# Altium footprint library SC091413.PcbLib: 3 footprints
Each footprint in its own frame and in the unit in brackets; x right, y up, seen from the top. Pads: shape width x height; smd on the part's side, far side on the other; paste and mask are expansions set on the pad; w line width, h text height; cw(c..) or ccw(c..) is an arc to the next point about the centre after c.
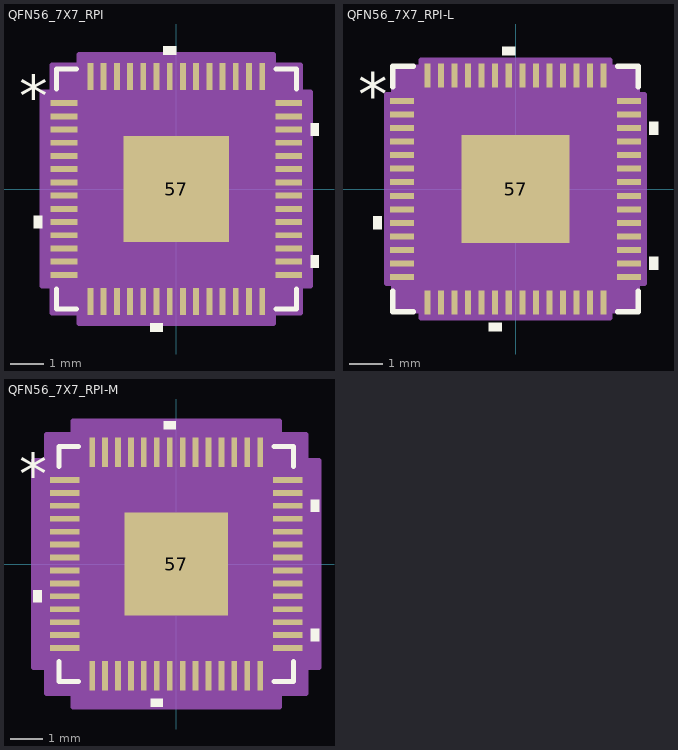
[diagram p0: the footprints below, top view; thin cyan lines are the x and y axes]

## QFN56_7X7_RPI [mil]
pads (57):
  rect 32x7 smd paste+0 mask+0: 1(-134,102.36) 2(-134,86.61) 3(-134,70.87) 4(-134,55.12) 5(-134,39.37) 6(-134,23.62) 7(-134,7.87) 8(-134,-7.87) 9(-134,-23.62) 10(-134,-39.37) 11(-134,-55.12) 12(-134,-70.87) 13(-134,-86.61) 14(-134,-102.36) 29(134,-102.36) 30(134,-86.61) 31(134,-70.87) 32(134,-55.12) 33(134,-39.37) 34(134,-23.62) 35(134,-7.87) 36(134,7.87) 37(134,23.62) 38(134,39.37) 39(134,55.12) 40(134,70.87) 41(134,86.61) 42(134,102.36)
  rect 7x32 smd paste+0 mask+0: 15(-102.36,-134) 16(-86.61,-134) 17(-70.87,-134) 18(-55.12,-134) 19(-39.37,-134) 20(-23.62,-134) 21(-7.87,-134) 22(7.87,-134) 23(23.62,-134) 24(39.37,-134) 25(55.12,-134) 26(70.87,-134) 27(86.61,-134) 28(102.36,-134) 43(102.36,134) 44(86.61,134) 45(70.87,134) 46(55.12,134) 47(39.37,134) 48(23.62,134) 49(7.87,134) 50(-7.87,134) 51(-23.62,134) 52(-39.37,134) 53(-55.12,134) 54(-70.87,134) 55(-86.61,134) 56(-102.36,134)
  rect 126x126 smd paste-63 mask+0: 57(0,0)
Top Overlay:
  region: -0.37,160 -15.37,160 -15.37,170 -0.37,170
  region: 160,78.37 170,78.37 170,63.37 160,63.37
  region: 160,-79.11 170,-79.11 170,-94.11 160,-94.11
  region: -16.12,-160 -31.12,-160 -31.12,-170 -16.12,-170
  region: -160,-31.87 -170,-31.87 -170,-46.87 -160,-46.87
  lines w6: -143,-118.96 -143,-143 -118.96,-143 ; -143,118.96 -143,143 -118.96,143 ; 118.96,-143 143,-143 143,-118.96 ; 118.96,143 143,143 143,118.96
  text "*" at -187.5,85.24 h50
Top Paste:
  region: 59.06,-3.94 3.94,-3.94 3.94,-59.06 59.06,-59.06
  region: 59.06,59.06 3.94,59.06 3.94,3.94 59.06,3.94
  region: -3.94,-3.94 -59.06,-3.94 -59.06,-59.06 -3.94,-59.06
  region: -3.94,59.06 -59.06,59.06 -59.06,3.94 -3.94,3.94
Mechanical 13:
  lines w1: -138,88 -88,138 ; -138,-138 -138,138 138,138 138,-138 -138,-138 ; -138,-106.86 -138,-97.86 -138,-106.86 ; -138,-91.11 -138,-82.11 -138,-91.11 ; -138,-75.37 -138,-66.37 -138,-75.37 ; -138,-59.62 -138,-50.62 -138,-59.62 ; -138,-43.87 -138,-34.87 -138,-43.87 ; -138,-28.12 -138,-19.12 -138,-28.12 ; -138,-12.37 -138,-3.37 -138,-12.37 ; -138,3.37 -138,12.37 -138,3.37 ; -138,19.12 -138,28.12 -138,19.12 ; -138,34.87 -138,43.87 -138,34.87 ; -138,50.62 -138,59.62 -138,50.62 ; -138,66.37 -138,75.37 -138,66.37 ; -138,82.11 -138,91.11 -138,82.11 ; -138,97.86 -138,106.86 -138,97.86 ; -106.86,-138 -97.86,-138 -106.86,-138 ; -106.86,138 -97.86,138 -106.86,138 ; -91.11,-138 -82.11,-138 -91.11,-138 ; -91.11,138 -82.11,138 -91.11,138 ; -75.37,-138 -66.37,-138 -75.37,-138 ; -75.37,138 -66.37,138 -75.37,138 ; -59.62,-138 -50.62,-138 -59.62,-138 ; -59.62,138 -50.62,138 -59.62,138 ; -43.87,-138 -34.87,-138 -43.87,-138 ; -43.87,138 -34.87,138 -43.87,138 ; -28.12,-138 -19.12,-138 -28.12,-138 ; -28.12,138 -19.12,138 -28.12,138 ; -12.37,-138 -3.37,-138 -12.37,-138 ; -12.37,138 -3.37,138 -12.37,138 ; 3.37,-138 12.37,-138 3.37,-138 ; 3.37,138 12.37,138 3.37,138 ; 19.12,-138 28.12,-138 19.12,-138 ; 19.12,138 28.12,138 19.12,138 ; 34.87,-138 43.87,-138 34.87,-138 ; 34.87,138 43.87,138 34.87,138 ; 50.62,-138 59.62,-138 50.62,-138 ; 50.62,138 59.62,138 50.62,138 ; 66.37,-138 75.37,-138 66.37,-138 ; 66.37,138 75.37,138 66.37,138 ; 82.11,-138 91.11,-138 82.11,-138 ; 82.11,138 91.11,138 82.11,138 ; 97.86,-138 106.86,-138 97.86,-138 ; 97.86,138 106.86,138 97.86,138 ; 138,-106.86 138,-97.86 138,-106.86 ; 138,-91.11 138,-82.11 138,-91.11 ; 138,-75.37 138,-66.37 138,-75.37 ; 138,-59.62 138,-50.62 138,-59.62 ; 138,-43.87 138,-34.87 138,-43.87 ; 138,-28.12 138,-19.12 138,-28.12 ; 138,-12.37 138,-3.37 138,-12.37 ; 138,3.37 138,12.37 138,3.37 ; 138,19.12 138,28.12 138,19.12 ; 138,34.87 138,43.87 138,34.87 ; 138,50.62 138,59.62 138,50.62 ; 138,66.37 138,75.37 138,66.37 ; 138,82.11 138,91.11 138,82.11 ; 138,97.86 138,106.86 138,97.86
  text "*" at -130.5,85.24 h50
Mechanical 15:
  region: -115.86,-148 -148,-148 -148,-115.86 -160,-115.86 -160,115.86 -148,115.86 -148,148 -115.86,148 -115.86,160 115.86,160 115.86,148 148,148 148,115.86 160,115.86 160,-115.86 148,-115.86 148,-148 115.86,-148 115.86,-160 -115.86,-160
  lines w6: -160,-115.86 -160,115.86 -148,115.86 -148,148 -115.86,148 -115.86,160 115.86,160 115.86,148 148,148 148,115.86 160,115.86 160,-115.86 148,-115.86 148,-148 115.86,-148 115.86,-160 -115.86,-160 -115.86,-148 -148,-148 -148,-115.86 -160,-115.86
3D body "QFN56_7X7_RPI.step": height 35.12, standoff 0, extent -137.99,-137.99 137.99,137.99

## QFN56_7X7_RPI-L [mil]
pads (57):
  rect 28x7 smd paste+0 mask+0: 1(-132,102.36) 2(-132,86.61) 3(-132,70.87) 4(-132,55.12) 5(-132,39.37) 6(-132,23.62) 7(-132,7.87) 8(-132,-7.87) 9(-132,-23.62) 10(-132,-39.37) 11(-132,-55.12) 12(-132,-70.87) 13(-132,-86.61) 14(-132,-102.36) 29(132,-102.36) 30(132,-86.61) 31(132,-70.87) 32(132,-55.12) 33(132,-39.37) 34(132,-23.62) 35(132,-7.87) 36(132,7.87) 37(132,23.62) 38(132,39.37) 39(132,55.12) 40(132,70.87) 41(132,86.61) 42(132,102.36)
  rect 7x28 smd paste+0 mask+0: 15(-102.36,-132) 16(-86.61,-132) 17(-70.87,-132) 18(-55.12,-132) 19(-39.37,-132) 20(-23.62,-132) 21(-7.87,-132) 22(7.87,-132) 23(23.62,-132) 24(39.37,-132) 25(55.12,-132) 26(70.87,-132) 27(86.61,-132) 28(102.36,-132) 43(102.36,132) 44(86.61,132) 45(70.87,132) 46(55.12,132) 47(39.37,132) 48(23.62,132) 49(7.87,132) 50(-7.87,132) 51(-23.62,132) 52(-39.37,132) 53(-55.12,132) 54(-70.87,132) 55(-86.61,132) 56(-102.36,132)
  rect 126x126 smd paste-63 mask+0: 57(0,0)
Top Overlay:
  region: -156,-31.87 -166,-31.87 -166,-46.87 -156,-46.87
  region: -16.12,-156 -31.12,-156 -31.12,-166 -16.12,-166
  region: 156,-79.11 166,-79.11 166,-94.11 156,-94.11
  region: 156,78.37 166,78.37 166,63.37 156,63.37
  region: -0.37,156 -15.37,156 -15.37,166 -0.37,166
  lines w6: -143,-118.96 -143,-143 -118.96,-143 ; -143,118.96 -143,143 -118.96,143 ; 118.96,-143 143,-143 143,-118.96 ; 118.96,143 143,143 143,118.96
  text "*" at -183.5,85.24 h50
Top Paste:
  region: -3.94,59.06 -59.06,59.06 -59.06,3.94 -3.94,3.94
  region: -3.94,-3.94 -59.06,-3.94 -59.06,-59.06 -3.94,-59.06
  region: 59.06,59.06 3.94,59.06 3.94,3.94 59.06,3.94
  region: 59.06,-3.94 3.94,-3.94 3.94,-59.06 59.06,-59.06
Mechanical 13:
  lines w1: -138,88 -88,138 ; -138,-138 138,-138 138,138 -138,138 -138,-138 ; -138,-106.86 -138,-97.86 -138,-106.86 ; -138,-91.11 -138,-82.11 -138,-91.11 ; -138,-75.37 -138,-66.37 -138,-75.37 ; -138,-59.62 -138,-50.62 -138,-59.62 ; -138,-43.87 -138,-34.87 -138,-43.87 ; -138,-28.12 -138,-19.12 -138,-28.12 ; -138,-12.37 -138,-3.37 -138,-12.37 ; -138,3.37 -138,12.37 -138,3.37 ; -138,19.12 -138,28.12 -138,19.12 ; -138,34.87 -138,43.87 -138,34.87 ; -138,50.62 -138,59.62 -138,50.62 ; -138,66.37 -138,75.37 -138,66.37 ; -138,82.11 -138,91.11 -138,82.11 ; -138,97.86 -138,106.86 -138,97.86 ; -106.86,-138 -97.86,-138 -106.86,-138 ; -106.86,138 -97.86,138 -106.86,138 ; -91.11,-138 -82.11,-138 -91.11,-138 ; -91.11,138 -82.11,138 -91.11,138 ; -75.37,-138 -66.37,-138 -75.37,-138 ; -75.37,138 -66.37,138 -75.37,138 ; -59.62,-138 -50.62,-138 -59.62,-138 ; -59.62,138 -50.62,138 -59.62,138 ; -43.87,-138 -34.87,-138 -43.87,-138 ; -43.87,138 -34.87,138 -43.87,138 ; -28.12,-138 -19.12,-138 -28.12,-138 ; -28.12,138 -19.12,138 -28.12,138 ; -12.37,-138 -3.37,-138 -12.37,-138 ; -12.37,138 -3.37,138 -12.37,138 ; 3.37,-138 12.37,-138 3.37,-138 ; 3.37,138 12.37,138 3.37,138 ; 19.12,-138 28.12,-138 19.12,-138 ; 19.12,138 28.12,138 19.12,138 ; 34.87,-138 43.87,-138 34.87,-138 ; 34.87,138 43.87,138 34.87,138 ; 50.62,-138 59.62,-138 50.62,-138 ; 50.62,138 59.62,138 50.62,138 ; 66.37,-138 75.37,-138 66.37,-138 ; 66.37,138 75.37,138 66.37,138 ; 82.11,-138 91.11,-138 82.11,-138 ; 82.11,138 91.11,138 82.11,138 ; 97.86,-138 106.86,-138 97.86,-138 ; 97.86,138 106.86,138 97.86,138 ; 138,-106.86 138,-97.86 138,-106.86 ; 138,-91.11 138,-82.11 138,-91.11 ; 138,-75.37 138,-66.37 138,-75.37 ; 138,-59.62 138,-50.62 138,-59.62 ; 138,-43.87 138,-34.87 138,-43.87 ; 138,-28.12 138,-19.12 138,-28.12 ; 138,-12.37 138,-3.37 138,-12.37 ; 138,3.37 138,12.37 138,3.37 ; 138,19.12 138,28.12 138,19.12 ; 138,34.87 138,43.87 138,34.87 ; 138,50.62 138,59.62 138,50.62 ; 138,66.37 138,75.37 138,66.37 ; 138,82.11 138,91.11 138,82.11 ; 138,97.86 138,106.86 138,97.86
  text "*" at -130.5,85.24 h50
Mechanical 15:
  region: -109.86,-142 -142,-142 -142,-109.86 -150,-109.86 -150,109.86 -142,109.86 -142,142 -109.86,142 -109.86,150 109.86,150 109.86,142 142,142 142,109.86 150,109.86 150,-109.86 142,-109.86 142,-142 109.86,-142 109.86,-150 -109.86,-150
  lines w6: -150,-109.86 -142,-109.86 -142,-142 -109.86,-142 -109.86,-150 109.86,-150 109.86,-142 142,-142 142,-109.86 150,-109.86 150,109.86 142,109.86 142,142 109.86,142 109.86,150 -109.86,150 -109.86,142 -142,142 -142,109.86 -150,109.86 -150,-109.86
3D body "QFN56_7X7_RPI.step": height 35.12, standoff 0, extent -137.99,-137.99 137.99,137.99

## QFN56_7X7_RPI-M [mil]
pads (57):
  rect 36x7 smd paste+0 mask+0: 1(-136,102.36) 2(-136,86.61) 3(-136,70.87) 4(-136,55.12) 5(-136,39.37) 6(-136,23.62) 7(-136,7.87) 8(-136,-7.87) 9(-136,-23.62) 10(-136,-39.37) 11(-136,-55.12) 12(-136,-70.87) 13(-136,-86.61) 14(-136,-102.36) 29(136,-102.36) 30(136,-86.61) 31(136,-70.87) 32(136,-55.12) 33(136,-39.37) 34(136,-23.62) 35(136,-7.87) 36(136,7.87) 37(136,23.62) 38(136,39.37) 39(136,55.12) 40(136,70.87) 41(136,86.61) 42(136,102.36)
  rect 7x36 smd paste+0 mask+0: 15(-102.36,-136) 16(-86.61,-136) 17(-70.87,-136) 18(-55.12,-136) 19(-39.37,-136) 20(-23.62,-136) 21(-7.87,-136) 22(7.87,-136) 23(23.62,-136) 24(39.37,-136) 25(55.12,-136) 26(70.87,-136) 27(86.61,-136) 28(102.36,-136) 43(102.36,136) 44(86.61,136) 45(70.87,136) 46(55.12,136) 47(39.37,136) 48(23.62,136) 49(7.87,136) 50(-7.87,136) 51(-23.62,136) 52(-39.37,136) 53(-55.12,136) 54(-70.87,136) 55(-86.61,136) 56(-102.36,136)
  rect 126x126 smd paste-63 mask+0: 57(0,0)
Top Overlay:
  region: -164,-31.87 -174,-31.87 -174,-46.87 -164,-46.87
  region: -16.12,-164 -31.12,-164 -31.12,-174 -16.12,-174
  region: 164,-79.11 174,-79.11 174,-94.11 164,-94.11
  region: 164,78.37 174,78.37 174,63.37 164,63.37
  region: -0.37,164 -15.37,164 -15.37,174 -0.37,174
  lines w6: -143,-118.96 -143,-143 -118.96,-143 ; -143,118.96 -143,143 -118.96,143 ; 118.96,-143 143,-143 143,-118.96 ; 118.96,143 143,143 143,118.96
  text "*" at -191.5,85.24 h50
Top Paste:
  region: -3.94,59.06 -59.06,59.06 -59.06,3.94 -3.94,3.94
  region: -3.94,-3.94 -59.06,-3.94 -59.06,-59.06 -3.94,-59.06
  region: 59.06,59.06 3.94,59.06 3.94,3.94 59.06,3.94
  region: 59.06,-3.94 3.94,-3.94 3.94,-59.06 59.06,-59.06
Mechanical 13:
  lines w1: -138,88 -88,138 ; -138,-138 138,-138 138,138 -138,138 -138,-138 ; -138,-106.86 -138,-97.86 -138,-106.86 ; -138,-91.11 -138,-82.11 -138,-91.11 ; -138,-75.37 -138,-66.37 -138,-75.37 ; -138,-59.62 -138,-50.62 -138,-59.62 ; -138,-43.87 -138,-34.87 -138,-43.87 ; -138,-28.12 -138,-19.12 -138,-28.12 ; -138,-12.37 -138,-3.37 -138,-12.37 ; -138,3.37 -138,12.37 -138,3.37 ; -138,19.12 -138,28.12 -138,19.12 ; -138,34.87 -138,43.87 -138,34.87 ; -138,50.62 -138,59.62 -138,50.62 ; -138,66.37 -138,75.37 -138,66.37 ; -138,82.11 -138,91.11 -138,82.11 ; -138,97.86 -138,106.86 -138,97.86 ; -106.86,-138 -97.86,-138 -106.86,-138 ; -106.86,138 -97.86,138 -106.86,138 ; -91.11,-138 -82.11,-138 -91.11,-138 ; -91.11,138 -82.11,138 -91.11,138 ; -75.37,-138 -66.37,-138 -75.37,-138 ; -75.37,138 -66.37,138 -75.37,138 ; -59.62,-138 -50.62,-138 -59.62,-138 ; -59.62,138 -50.62,138 -59.62,138 ; -43.87,-138 -34.87,-138 -43.87,-138 ; -43.87,138 -34.87,138 -43.87,138 ; -28.12,-138 -19.12,-138 -28.12,-138 ; -28.12,138 -19.12,138 -28.12,138 ; -12.37,-138 -3.37,-138 -12.37,-138 ; -12.37,138 -3.37,138 -12.37,138 ; 3.37,-138 12.37,-138 3.37,-138 ; 3.37,138 12.37,138 3.37,138 ; 19.12,-138 28.12,-138 19.12,-138 ; 19.12,138 28.12,138 19.12,138 ; 34.87,-138 43.87,-138 34.87,-138 ; 34.87,138 43.87,138 34.87,138 ; 50.62,-138 59.62,-138 50.62,-138 ; 50.62,138 59.62,138 50.62,138 ; 66.37,-138 75.37,-138 66.37,-138 ; 66.37,138 75.37,138 66.37,138 ; 82.11,-138 91.11,-138 82.11,-138 ; 82.11,138 91.11,138 82.11,138 ; 97.86,-138 106.86,-138 97.86,-138 ; 97.86,138 106.86,138 97.86,138 ; 138,-106.86 138,-97.86 138,-106.86 ; 138,-91.11 138,-82.11 138,-91.11 ; 138,-75.37 138,-66.37 138,-75.37 ; 138,-59.62 138,-50.62 138,-59.62 ; 138,-43.87 138,-34.87 138,-43.87 ; 138,-28.12 138,-19.12 138,-28.12 ; 138,-12.37 138,-3.37 138,-12.37 ; 138,3.37 138,12.37 138,3.37 ; 138,19.12 138,28.12 138,19.12 ; 138,34.87 138,43.87 138,34.87 ; 138,50.62 138,59.62 138,50.62 ; 138,66.37 138,75.37 138,66.37 ; 138,82.11 138,91.11 138,82.11 ; 138,97.86 138,106.86 138,97.86
  text "*" at -130.5,85.24 h50
Mechanical 15:
  region: -125.86,-158 -158,-158 -158,-125.86 -174,-125.86 -174,125.86 -158,125.86 -158,158 -125.86,158 -125.86,174 125.86,174 125.86,158 158,158 158,125.86 174,125.86 174,-125.86 158,-125.86 158,-158 125.86,-158 125.86,-174 -125.86,-174
  lines w6: -174,-125.86 -158,-125.86 -158,-158 -125.86,-158 -125.86,-174 125.86,-174 125.86,-158 158,-158 158,-125.86 174,-125.86 174,125.86 158,125.86 158,158 125.86,158 125.86,174 -125.86,174 -125.86,158 -158,158 -158,125.86 -174,125.86 -174,-125.86
3D body "QFN56_7X7_RPI.step": height 35.12, standoff 0, extent -137.99,-137.99 137.99,137.99